# Altium footprint library SX1268ZTR4-GC Altium Designer.PcbLib: 1 footprints
Each footprint in its own frame and in the unit in brackets; x right, y up, seen from the top. Pads: shape width x height; smd on the part's side, far side on the other; paste and mask are expansions set on the pad; w line width, h text height; cw(c..) or ccw(c..) is an arc to the next point about the centre after c.
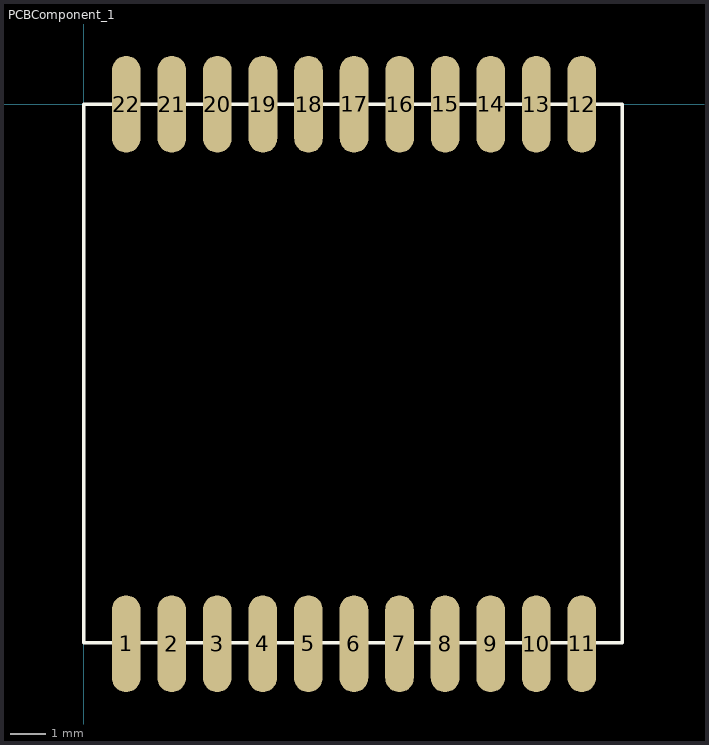
[diagram p0: the footprint, top view; thin cyan lines are the x and y axes]

## PCBComponent_1 [mm]
pads (22):
  oval 0.8x2.7 smd: 1(1.184,-15.037) 2(2.454,-15.037) 3(3.724,-15.037) 4(4.994,-15.037) 5(6.264,-15.037) 6(7.534,-15.037) 7(8.804,-15.037) 8(10.074,-15.037) 9(11.344,-15.037) 10(12.614,-15.037) 11(13.884,-15.037) 12(13.888,0.002) 13(12.618,0.002) 14(11.348,0.002) 15(10.078,0.002) 16(8.808,0.002) 17(7.538,0.002) 18(6.268,0.002) 19(4.998,0.002) 20(3.728,0.002) 21(2.458,0.002) 22(1.188,0.002)
Top Overlay:
  lines w0.1: 0,-15.011 15.011,-15.011 15.011,0 0,0 0,-15.011